# EAGLE library part SX1308 (library water-lib)
DC-DC Converters Step-Up Adjustable 1 2V 24V 28V 2A SOT-23-6 RoHS Source: Datasheet <https://datasheet.lcsc.com/szlcsc/Shenzhen-Suosemi-Tech-SX1308_C78162.pdf>
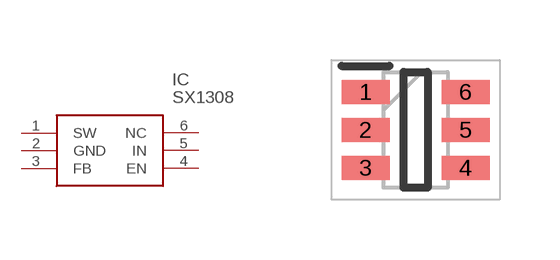
[diagram p3: symbol with the pads of SOT95P280X145-6N; footprint SOT95P280X145-6N]

Designator prefix IC

## SX1308 (DESCRIPTION: DC-DC Converters Step-Up Adjustable 1 2V 24V 28V 2A SOT-23-6 RoHS; HEIGHT: 1.45mm; MANUFACTURER_NAME: Shenzhen Suosemi Tech; MANUFACTURER_PART_NUMBER: SX1308)  [SOT95P280X145-6N]
1  SW
2  GND
3  FB
4  EN
5  IN
6  NC  nc

## Footprint SOT95P280X145-6N (pad centres in mm)
TSOT23-6/SOT23-6
smd 1.2 x 0.6: 1 -1.25,0.95; 2 -1.25,0; 3 -1.25,-0.95; 4 1.25,-0.95; 5 1.25,0; 6 1.25,0.95